# EAGLE library part IPS6404L-SQ-SPN (library IPS6404L-SQ-SPN)
int Source: Datasheet <https://github.com/Edragon/Datasheet/blob/master/IPUS/IPUS 64Mbit.pdf>
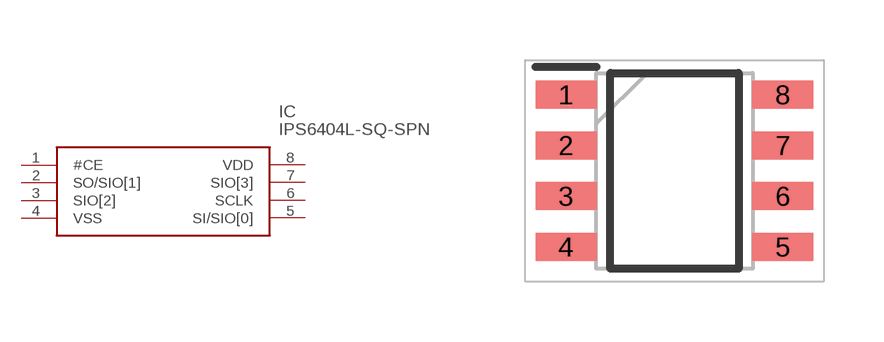
[diagram p0: symbol with the pads of SOIC127P600X175-8N; footprint SOIC127P600X175-8N]

Designator prefix IC

## IPS6404L-SQ-SPN (DESCRIPTION: int; HEIGHT: 1.75mm; MANUFACTURER_NAME: Electrodragon; MANUFACTURER_PART_NUMBER: IPS6404L-SQ-SPN)  [SOIC127P600X175-8N]
1  #CE
2  SO/SIO[1]
3  SIO[2]
4  VSS
5  SI/SIO[0]
6  SCLK
7  SIO[3]
8  VDD

## Footprint SOIC127P600X175-8N (pad centres in mm)
sop8
smd 1.525 x 0.7: 1 -2.712,1.905; 2 -2.712,0.635; 3 -2.712,-0.635; 4 -2.712,-1.905; 5 2.712,-1.905; 6 2.712,-0.635; 7 2.712,0.635; 8 2.712,1.905